# Altium schematic symbol library GoldFinger_Schlib.SchLib: 12 symbols
Pins are listed as number, name and electrical type; pins without a type are passive.

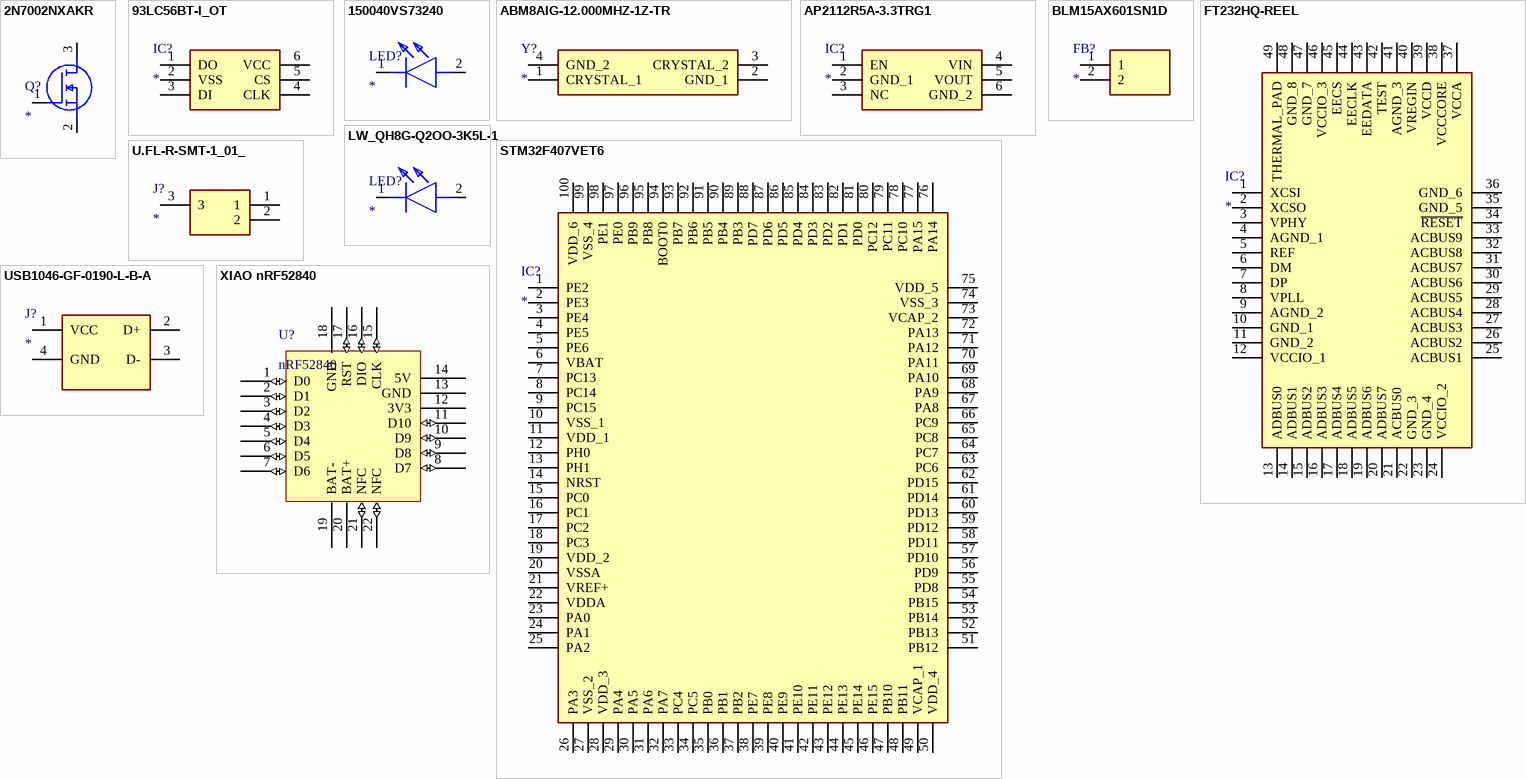
[diagram p0: symbols 2N7002NXAKR to XIAO nRF52840]

## 2N7002NXAKR
designator Q?
MOSFET (N-Channel); Manufacturer_Name: Nexperia; Manufacturer_Part_Number: 2N7002NXAKR; Datasheet Link: https://assets.nexperia.com/documents/data-sheet/2N7002NXAK.pdf; Height: 1.1mm; Mouser Part Number: 771-2N7002NXAKR; Mouser Price/Stock: https://www.mouser.co.uk/ProductDetail/Nexperia/2N7002NXAKR?qs=%252B6g0mu59x7JoAsZYPFXqhw%3D%3D; Arrow Part Number: 2N7002NXAKR; Arrow Price/Stock: https://www.arrow.com/en/products/2n7002nxakr/nexperia?region=europe
footprint SOT95P230X110-3N
pins: 1 G, 2 S, 3 D

## 93LC56BT-I_OT
designator IC?
Integrated Circuit; Manufacturer_Name: Microchip; Manufacturer_Part_Number: 93LC56BT-I/OT; Datasheet Link: http://ww1.microchip.com/downloads/en/DeviceDoc/21794G.pdf; Height: 1.45mm; Mouser Part Number: 579-93LC56BT-I/OT; Mouser Price/Stock: https://www.mouser.co.uk/ProductDetail/Microchip-Technology/93LC56BT-I-OT?qs=lQv0JY93vrc7B5Rh5LPW8g%3D%3D; Arrow Part Number: 93LC56BT-I/OT; Arrow Price/Stock: https://www.arrow.com/en/products/93lc56bt-iot/microchip-technology?region=nac
footprint SOT95P270X145-6N
pins: 1 DO, 2 VSS, 3 DI, 4 CLK, 5 CS, 6 VCC

## 150040VS73240
designator LED?
LED; Manufacturer_Name: Wurth Elektronik; Manufacturer_Part_Number: 150040VS73240; Datasheet Link: https://katalog.we-online.de/led/datasheet/150040VS73240.pdf; Height: 0.5mm; Mouser Part Number: 710-150040VS73240; Mouser Price/Stock: https://www.mouser.co.uk/ProductDetail/Wurth-Elektronik/150040VS73240?qs=8Aam6%252B7C6HEhyesRm%252BQyFQ%3D%3D
footprint LEDC1005X50N
pins: 1 K, 2 A

## ABM8AIG-12.000MHZ-1Z-TR
designator Y?
Crystal or Oscillator; Manufacturer_Name: ABRACON; Manufacturer_Part_Number: ABM8AIG-12.000MHZ-1Z-TR; Datasheet Link: https://abracon.com/AIGcrystals/ABM8AIG.pdf; Height: 0.8mm; Mouser Part Number: 815-M8AIG-12-1ZT; Mouser Price/Stock: https://www.mouser.co.uk/ProductDetail/ABRACON/ABM8AIG-12.000MHZ-1Z-TR?qs=t7xnP681wgVIFBgGyVZCbw%3D%3D
footprint ABM8AIG12000MHZ1ZTR
pins: 1 CRYSTAL_1, 2 GND_1, 3 CRYSTAL_2, 4 GND_2

## AP2112R5A-3.3TRG1
designator IC?
Integrated Circuit; Manufacturer_Name: Diodes Incorporated; Manufacturer_Part_Number: AP2112R5A-3.3TRG1; Datasheet Link: https://www.diodes.com/assets/Datasheets/AP2112.pdf; Height: 1.6mm; Mouser Part Number: 621-AP2112R5A-3.3TRG; Mouser Price/Stock: https://www.mouser.co.uk/ProductDetail/Diodes-Incorporated/AP2112R5A-3.3TRG1?qs=5V6w%252Be2aIqZ7ofXTuvKxSQ%3D%3D
footprint AP2112R5A33TRG1
pins: 1 EN, 2 GND_1, 3 NC, 4 VIN, 5 VOUT, 6 GND_2

## BLM15AX601SN1D
designator FB?
Ferrite Bead; Manufacturer_Name: Murata Electronics; Manufacturer_Part_Number: BLM15AX601SN1D; Datasheet Link: http://www.murata.com/~/media/webrenewal/support/library/catalog/products/emc/emifil/c31e.ashx?la=en-gb; Height: 0.55mm; Mouser Part Number: 81-BLM15AX601SN1D; Mouser Price/Stock: https://www.mouser.co.uk/ProductDetail/Murata-Electronics/BLM15AX601SN1D?qs=MY6wChARw2zrjX4xpWbUQA%3D%3D; Arrow Part Number: BLM15AX601SN1D; Arrow Price/Stock: https://www.arrow.com/en/products/blm15ax601sn1d/murata-manufacturing?region=europe
footprint NFZ15SG152SN10B
pins: 1, 2

## FT232HQ-REEL
designator IC?
Integrated Circuit; Manufacturer_Name: FTDI Chip; Manufacturer_Part_Number: FT232HQ-REEL; Datasheet Link: http://www.ftdichip.com/Support/Documents/DataSheets/ICs/DS_FT232H.pdf; Height: 1mm; Mouser Part Number: 895-FT232HQ-REEL; Mouser Price/Stock: https://www.mouser.co.uk/ProductDetail/FTDI/FT232HQ-REEL?qs=rzPzygjq8vI7%2FlAoU8Mqdw%3D%3D; Arrow Part Number: FT232HQ-REEL; Arrow Price/Stock: https://www.arrow.com/en/products/ft232hq-reel/ftdi-chip?region=nac
footprint QFN50P800X800X100-49N-D
pins: 1 XCSI, 2 XCSO, 3 VPHY, 4 AGND_1, 5 REF, 6 DM, 7 DP, 8 VPLL, 9 AGND_2, 10 GND_1, 11 GND_2, 12 VCCIO_1, 13 ADBUS0, 14 ADBUS1, 15 ADBUS2, 16 ADBUS3, 17 ADBUS4, 18 ADBUS5, 19 ADBUS6, 20 ADBUS7, 21 ACBUS0, 22 GND_3, 23 GND_4, 24 VCCIO_2, 25 ACBUS1, 26 ACBUS2, 27 ACBUS3, 28 ACBUS4, 29 ACBUS5, 30 ACBUS6, 31 ACBUS7, 32 ACBUS8, 33 ACBUS9, 34 ~{RESET}, 35 GND_5, 36 GND_6, 37 VCCA, 38 VCCCORE, 39 VCCD, 40 VREGIN, 41 AGND_3, 42 TEST, 43 EEDATA, 44 EECLK, 45 EECS, 46 VCCIO_3, 47 GND_7, 48 GND_8, 49 THERMAL_PAD

## LW_QH8G-Q2OO-3K5L-1
designator LED?
LED; Manufacturer_Name: OSRAM; Manufacturer_Part_Number: LW QH8G-Q2OO-3K5L-1; Datasheet Link: https://datasheet.datasheetarchive.com/originals/distributors/DKDS41/DSANUWW0036552.pdf; Height: 0.4mm; Mouser Part Number: 720-LWQH8G-Q2S2-3K5L; Mouser Price/Stock: https://www.mouser.co.uk/ProductDetail/OSRAM-Opto-Semiconductors/LW-QH8G-Q2OO-3K5L-1?qs=74fRo9GAWsx4kLMtacmiJQ%3D%3D; Arrow Part Number: LW QH8G-Q2OO-3K5L-1; Arrow Price/Stock: https://www.arrow.com/en/products/lwqh8g-q2oo-3k5l-1/osram-opto-semiconductors
footprint LEDC1005X40N
pins: 1 K, 2 A

## STM32F407VET6
designator IC?
Integrated Circuit; Manufacturer_Name: STMicroelectronics; Manufacturer_Part_Number: STM32F407VET6; Datasheet Link: http://www.st.com/web/en/resource/technical/document/datasheet/DM00037051.pdf; Height: 1.6mm; Mouser Part Number: 511-STM32F407VET6; Mouser Price/Stock: https://www.mouser.co.uk/ProductDetail/STMicroelectronics/STM32F407VET6?qs=Z8%252BeY1k3TIJFAMMqSR%252BGtw%3D%3D; Arrow Part Number: STM32F407VET6; Arrow Price/Stock: https://www.arrow.com/en/products/stm32f407vet6/stmicroelectronics?region=nac
footprint QFP50P1600X1600X160-100N
pins: 1 PE2, 2 PE3, 3 PE4, 4 PE5, 5 PE6, 6 VBAT, 7 PC13, 8 PC14, 9 PC15, 10 VSS_1, 11 VDD_1, 12 PH0, 13 PH1, 14 NRST, 15 PC0, 16 PC1, 17 PC2, 18 PC3, 19 VDD_2, 20 VSSA, 21 VREF+, 22 VDDA, 23 PA0, 24 PA1, 25 PA2, 26 PA3, 27 VSS_2, 28 VDD_3, 29 PA4, 30 PA5, 31 PA6, 32 PA7, 33 PC4, 34 PC5, 35 PB0, 36 PB1, 37 PB2, 38 PE7, 39 PE8, 40 PE9, 41 PE10, 42 PE11, 43 PE12, 44 PE13, 45 PE14, 46 PE15, 47 PB10, 48 PB11, 49 VCAP_1, 50 VDD_4, 51 PB12, 52 PB13, 53 PB14, 54 PB15, 55 PD8, 56 PD9, 57 PD10, 58 PD11, 59 PD12, 60 PD13, 61 PD14, 62 PD15, 63 PC6, 64 PC7, 65 PC8, 66 PC9, 67 PA8, 68 PA9, 69 PA10, 70 PA11, 71 PA12, 72 PA13, 73 VCAP_2, 74 VSS_3, 75 VDD_5, 76 PA14, 77 PA15, 78 PC10, 79 PC11, 80 PC12, 81 PD0, 82 PD1, 83 PD2, 84 PD3, 85 PD4, 86 PD5, 87 PD6, 88 PD7, 89 PB3, 90 PB4, 91 PB5, 92 PB6, 93 PB7, 94 BOOT0, 95 PB8, 96 PB9, 97 PE0, 98 PE1, 99 VSS_4, 100 VDD_6

## U.FL-R-SMT-1_01_
designator J?
Connector; Manufacturer_Name: Hirose; Manufacturer_Part_Number: U.FL-R-SMT-1(01); Datasheet Link: https://datasheet.datasheetarchive.com/originals/distributors/SFDatasheet-1/sf-00023454.pdf; Mouser Part Number: 798-UFLRSMT101; Mouser Price/Stock: https://www.mouser.co.uk/ProductDetail/Hirose-Connector/U.FL-R-SMT-101?qs=PABxe4V6HDpNsmXV6XKIVg%3D%3D; Arrow Part Number: U.FL-R-SMT-1(01); Arrow Price/Stock: https://www.arrow.com/en/products/u.fl-r-smt-1-01/hirose-electric
footprint U.FL-R-SMT(01)
pins: 1, 2, 3

## USB1046-GF-0190-L-B-A
designator J?
Connector; Manufacturer_Name: GCT (GLOBAL CONNECTOR TECHNOLOGY); Manufacturer_Part_Number: USB1046-GF-0190-L-B-A; Datasheet Link: https://gct.co/files/drawings/usb1046.pdf?v=ccb5d20d-0631-4297-aa3c-9c34fccf9fbc; Height: 7.2mm; Mouser Part Number: 640-USB1046GF0190LBA; Mouser Price/Stock: https://www.mouser.co.uk/ProductDetail/GCT/USB1046-GF-0190-L-B-A?qs=KUoIvG%2F9IlbZOJtEsn1unA%3D%3D
footprint USB1046GF0190LBA
pins: 1 VCC, 2 D+, 3 D-, 4 GND

## XIAO nRF52840
designator U?, comment nRF52840
footprint XIAO_nRF52840
pins: 1 D0 (io), 2 D1 (io), 3 D2 (io), 4 D3 (io), 5 D4 (io), 6 D5 (io), 7 D6 (io), 8 D7 (io), 9 D8 (io), 10 D9 (io), 11 D10 (io), 12 3V3 (power), 13 GND (power), 14 5V (power), 15 CLK (io), 16 DIO (io), 17 RST (io), 18 GND (power), 19 BAT- (power), 20 BAT+ (power), 21 NFC (io), 22 NFC (io)